# Altium footprint library amplifier.PcbLib: 49 footprints (part 2 of 4)
Each footprint in its own frame and in the unit in brackets; x right, y up, seen from the top. Pads: shape width x height; smd on the part's side, far side on the other; paste and mask are expansions set on the pad; w line width, h text height; cw(c..) or ccw(c..) is an arc to the next point about the centre after c.
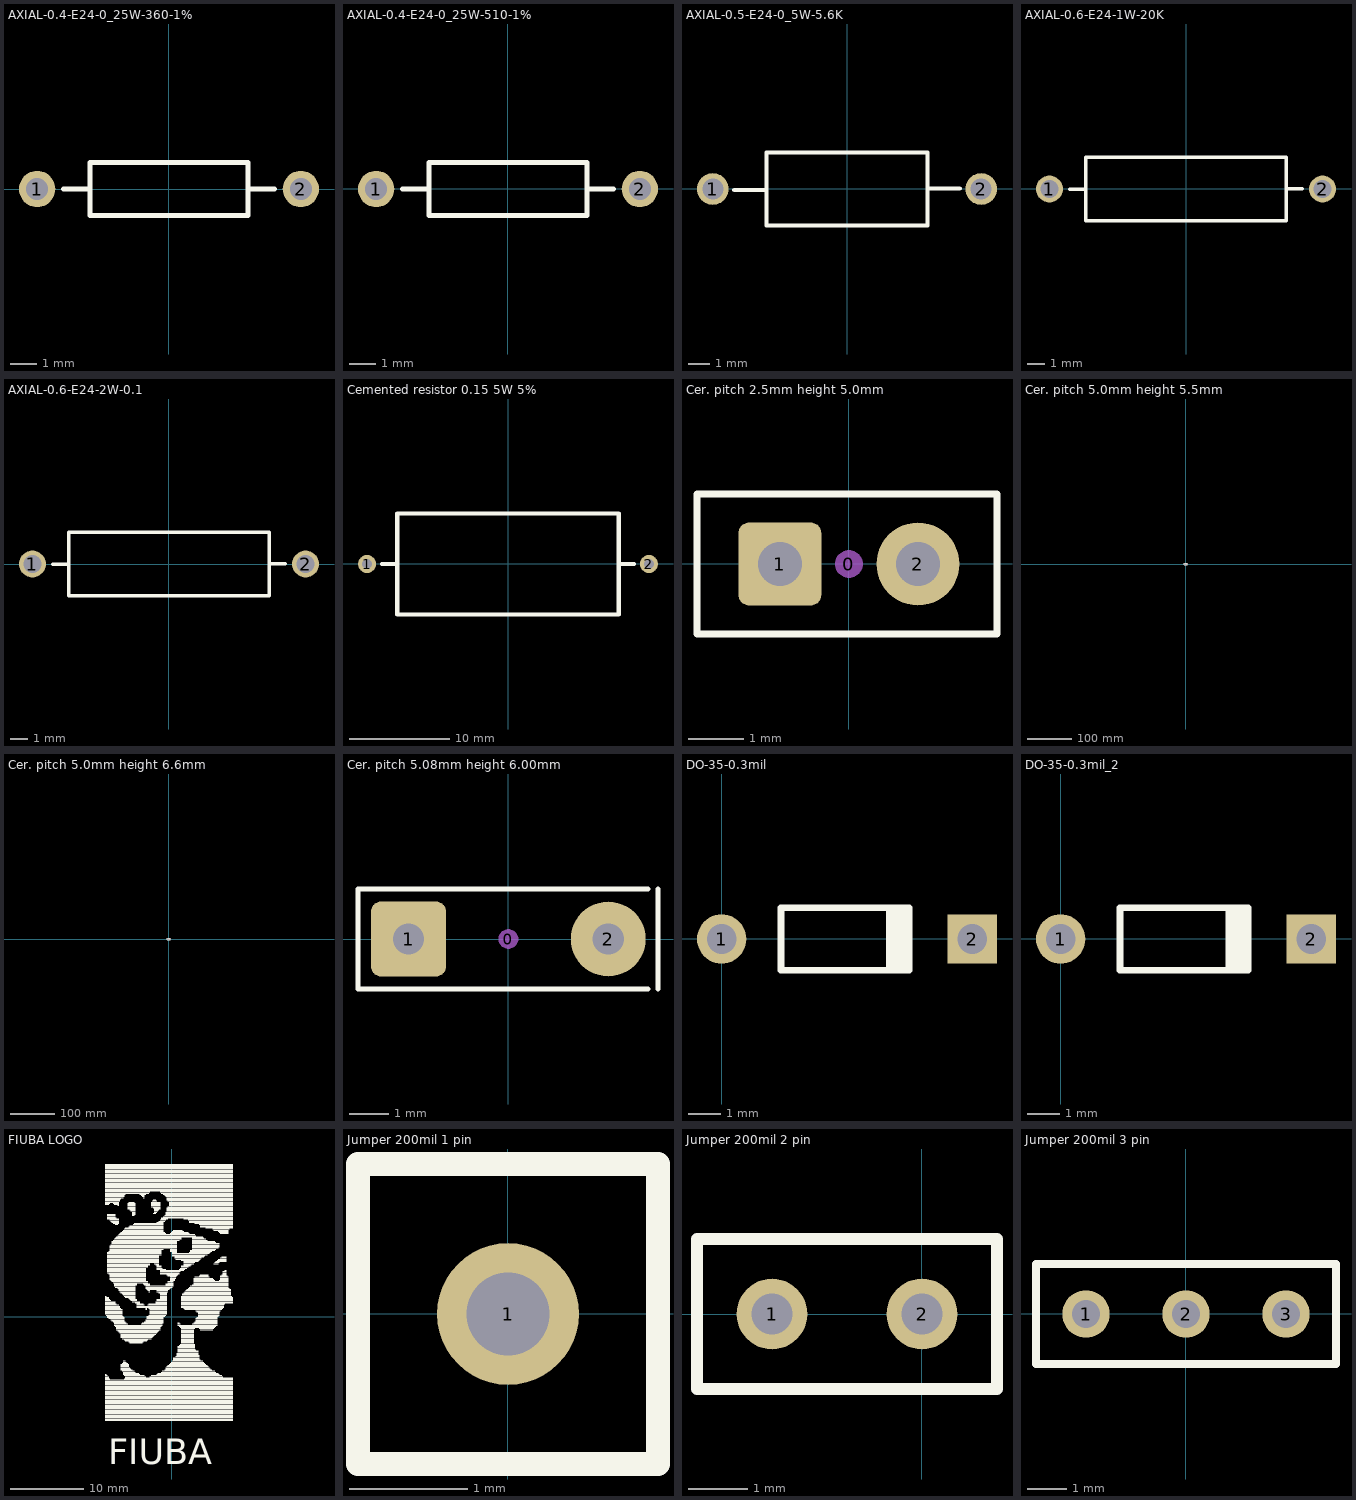
[diagram p1: the footprints below, top view; thin cyan lines are the x and y axes]

## AXIAL-0.4-E24-0_25W-360-1% [mm]
pads (2):
  round 1.4 hole 0.85: 1(-5.08,0) 2(5.08,0)
Top Overlay:
  lines w0.2: -4.064,0 -3.048,0 ; 3.048,0 4.064,0 ; -3.048,-1.016 -3.048,1.016 3.048,1.016 3.048,-1.016 -3.048,-1.016
3D body "User Library-Res40-Axial 0_25W-360R-1%.step": height 2.41, standoff -2, extent -5.38,-1.2 5.38,1.2

## AXIAL-0.4-E24-0_25W-510-1% [mm]
pads (2):
  round 1.4 hole 0.85: 1(-5.08,0) 2(5.08,0)
Top Overlay:
  lines w0.2: -4.064,0 -3.048,0 ; 3.048,0 4.064,0 ; -3.048,-1.016 -3.048,1.016 3.048,1.016 3.048,-1.016 -3.048,-1.016
3D body "User Library-Res40-Axial 0_25W-510R-1%.step": height 2.41, standoff -2, extent -5.38,-1.2 5.38,1.2

## AXIAL-0.5-E24-0_5W-5.6K [mm]
pads (2):
  round 1.5 hole 1: 1(-6.35,0) 2(6.35,0)
Top Overlay:
  lines w0.2: -5.334,-0.051 -4.953,-0.051 -4.191,-0.051 -3.81,-0.051 ; 3.81,0.025 5.334,0.025 ; -3.81,-1.727 3.81,-1.727 3.81,1.727 -3.81,1.727 -3.81,-1.727
3D body "Res50-Axial 0_5W-5_6K.step": height 4.3, standoff -5.08, extent -6.725,-1.875 6.725,1.875
3D body "Res50-Axial 0_5W-5_6K.step": height 4.3, standoff -5.08, extent -6.725,-1.875 6.725,1.875

## AXIAL-0.6-E24-1W-20K [mm]
pads (2):
  round 1.5 hole 1: 1(-7.62,0) 2(7.62,0)
Top Overlay:
  lines w0.2: -6.477,-0.025 -5.588,-0.025 ; 5.588,0.025 6.477,0.025 ; -5.588,-1.778 5.588,-1.778 5.588,1.778 -5.588,1.778 -5.588,-1.778
3D body "User Library-Res60-Axial 1W-20K-5%.step": height 5, standoff -3, extent -7.97,-2.5 7.97,2.5
3D body "User Library-Res60-Axial 1W-20K-5%.step": height 5.5, standoff -2.5, extent -7.97,-2.5 7.97,2.5

## AXIAL-0.6-E24-2W-0.1 [mm]
pads (2):
  round 1.5 hole 1: 1(-7.62,0) 2(7.62,0)
Top Overlay:
  lines w0.2: -6.477,-0.025 -5.588,-0.025 ; 5.588,0.025 6.477,0.025 ; -5.588,-1.778 -5.588,1.778 5.588,1.778 5.588,-1.778 -5.588,-1.778
3D body "User Library-Res40-Axial 2W-0R1-5%.step": height 4.5, standoff -3.5, extent -8.02,-2 8.02,2

## Cemented resistor 0.15 5W 5% [mm]
pads (2):
  round 1.8 / inner round 1.4 / far side round 1.8 hole 1: 1(-14,0) 2(14,0)
Top Overlay:
  lines w0.4: -12.5,0 -11,0 ; 11,0 12.5,0 ; -11,-5 11,-5 11,5 -11,5 -11,-5
3D body "Cement Fixed Resistors 5W 0R15 PCB Horizontal.step": height 11, standoff -1.6, extent -14.345,-5 14.345,5

## Cer. pitch 2.5mm height 5.0mm [mm]
pads (3):
  round 0.508 on Mech15: 0(0,0)
  rrect25% 1.5x1.5 hole 0.8: 1(-1.25,0)
  round 1.5 hole 0.8: 2(1.25,0)
Top Overlay:
  lines w0.127: 2.65,-1.27 -2.75,-1.27 -2.75,1.27 2.675,1.27 ; 2.681,-1.27 2.681,-0.635 2.681,0.635 2.681,1.27
3D body "FK18X5R1E474K.step": height 5.5, standoff -3.33, extent -2.775,-1.25 2.725,1.25

## Cer. pitch 5.0mm height 5.5mm [mm]
pads (3):
  round 0.508 on Mech15: 0(0,0)
  rrect25% 1.905x1.905 hole 0.8: 1(-2.5,0)
  round 1.905 hole 0.8: 2(2.5,0)
Top Overlay:
  lines w0.127: -3.5,-1.27 3.5,-1.27 3.5,1.27 -3.5,1.27 -3.5,-1.27
Mechanical 13:
  lines w0.127: -2.5,-0.3 cw(c-2.5,0) -2.5,0.3 ; -2.25,-0.523 -2.247,-0.511 -2.24,-0.497 -2.227,-0.48 -2.21,-0.461 -2.186,-0.439 -2.157,-0.415 -2.122,-0.387 -2.083,-0.357 -2.046,-0.327 -2.006,-0.292 -1.995,-0.281 -1.983,-0.268 -1.972,-0.254 -1.962,-0.238 -1.958,-0.229 -1.955,-0.218 -1.954,-0.211 -1.953,-0.203 ; -2.25,0.523 cw(c-3.279,-0.727) -1.953,0.203 ; -2.236,-0.718 cw(c-1.896,-0.22) -2.5,-0.217 -2.5,0.217 cw(c-1.896,0.221) -2.232,0.723 -2.23,0.724 -2.206,0.741 ; -2.232,-0.723 -2.225,-0.727 -2.205,-0.742 ; 2.205,0.742 2.225,0.727 2.232,0.723 ; 2.206,-0.741 2.23,-0.724 2.232,-0.723 ccw(c1.896,-0.221) 2.5,-0.217 2.5,0.217 ccw(c1.896,0.22) 2.236,0.718 ; 2.25,-0.523 2.243,-0.502 2.225,-0.477 2.187,-0.44 2.134,-0.397 2.073,-0.349 2.007,-0.293 1.986,-0.271 1.967,-0.246 1.956,-0.223 1.953,-0.203 ; 2.25,0.523 2.24,0.497 2.21,0.461 2.157,0.415 2.083,0.357 2.046,0.327 2.006,0.292 1.983,0.268 1.962,0.238 1.955,0.218 1.953,0.203 ; 2.5,-0.3 ccw(c2.5,0) 2.5,0.3 ; -1.953,-0.203 -1.953,0.203 ; -1.953,-0.203 1.953,-0.203 ; -1.953,0.203 1.953,0.203 ; -1.8,-1.003 cw(c-1.8,-0.553) -2.25,-0.553 -2.25,0.553 cw(c-1.8,0.553) -1.8,1.003 ; -1.8,-1.003 cw(c-1.777,-0.913) -1.867,-0.935 cw(c9.111,-1.292) -1.819,-0.203 -1.819,0.203 ccw(c-168.083,-10.401) -1.867,0.935 cw(c-1.777,0.912) -1.8,1.003 ; -1.8,-1.003 1.8,-1.003 ; -1.8,1.003 1.8,1.003 ; 1.8,-1.003 ccw(c1.8,-0.553) 2.25,-0.553 2.25,0.553 ccw(c1.8,0.553) 1.8,1.003 ; 1.8,-1.003 ccw(c1.777,-0.912) 1.867,-0.935 cw(c168.269,10.414) 1.819,-0.203 1.819,0.203 ccw(c-9.111,1.292) 1.867,0.935 ccw(c1.777,0.913) 1.8,1.003 ; 1.953,-0.203 1.953,0.203
3D body "TDK FK24 ceramic capacitor.STEP": height 5.47, standoff -2.54, extent -2.797,-1.003 2.798,1.003

## Cer. pitch 5.0mm height 6.6mm [mm]
pads (3):
  round 0.508 on Mech15: 0(0,0)
  rrect25% 1.905x1.905 hole 0.8: 1(-2.5,0)
  round 1.905 hole 0.8: 2(2.5,0)
Top Overlay:
  lines w0.127: -3.5,-1.27 3.475,-1.27 3.475,1.27 -3.5,1.27 -3.5,-1.27
Mechanical 13:
  lines w0.127: -2.5,-0.3 cw(c-2.5,0) -2.5,0.3 ; -2.5,-0.217 ccw(c-1.896,-0.22) -2.236,-0.718 ; -2.5,-0.217 -2.5,0.217 cw(c-1.896,0.221) -2.232,0.723 -2.23,0.724 -2.206,0.741 ; -2.25,-0.523 -2.248,-0.511 -2.24,-0.497 -2.227,-0.48 -2.21,-0.461 -2.186,-0.439 -2.157,-0.415 -2.122,-0.387 -2.083,-0.357 -2.046,-0.327 -2.006,-0.292 -1.995,-0.281 -1.983,-0.268 -1.972,-0.254 -1.962,-0.238 -1.958,-0.229 -1.955,-0.218 -1.954,-0.211 -1.953,-0.203 ; -2.25,0.523 cw(c-3.279,-0.727) -1.953,0.203 ; -2.232,-0.723 -2.225,-0.727 -2.205,-0.742 ; 2.205,0.742 2.225,0.727 2.232,0.723 ; 2.206,-0.741 2.23,-0.724 2.232,-0.723 ccw(c1.896,-0.221) 2.5,-0.217 2.5,0.217 ccw(c1.896,0.22) 2.236,0.718 ; 2.25,-0.523 2.243,-0.502 2.225,-0.477 2.187,-0.44 2.134,-0.397 2.073,-0.349 2.007,-0.293 1.986,-0.271 1.967,-0.246 1.956,-0.223 1.953,-0.203 ; 2.25,0.523 2.24,0.497 2.21,0.461 2.157,0.415 2.083,0.357 2.046,0.327 2.006,0.292 1.983,0.268 1.962,0.238 1.955,0.218 1.953,0.203 ; 2.5,-0.3 ccw(c2.5,0) 2.5,0.3 ; -1.953,-0.203 -1.953,0.203 ; -1.953,-0.203 1.953,-0.203 ; -1.953,0.203 1.953,0.203 ; -1.8,-1.003 cw(c-1.8,-0.553) -2.25,-0.553 -2.25,0.553 cw(c-1.8,0.553) -1.8,1.003 ; -1.8,-1.003 cw(c-1.777,-0.913) -1.867,-0.935 cw(c9.111,-1.292) -1.819,-0.203 -1.819,0.203 ccw(c-168.083,-10.401) -1.867,0.935 cw(c-1.777,0.912) -1.8,1.003 ; -1.8,-1.003 1.8,-1.003 ; -1.8,1.003 1.8,1.003 ; 1.8,-1.003 ccw(c1.8,-0.553) 2.25,-0.553 2.25,0.553 ccw(c1.8,0.553) 1.8,1.003 ; 1.8,-1.003 ccw(c1.777,-0.912) 1.867,-0.935 cw(c168.269,10.414) 1.819,-0.203 1.819,0.203 ccw(c-9.111,1.292) 1.867,0.935 ccw(c1.777,0.913) 1.8,1.003 ; 1.953,-0.203 1.953,0.203
3D body "CAPML200 (2_5x6_6)-2.step": height 9.14, standoff -3.77, extent -3.537,-1.3 3.537,1.3

## Cer. pitch 5.08mm height 6.00mm [mil]
pads (3):
  round 20 on Mech15: 0(0,0)
  rrect25% 75x75 hole 31.5: 1(-100,0)
  round 75 hole 31.5: 2(100,0)
Top Overlay:
  lines w5: 140,-50 -150.59,-50 -150.59,50 140,50 ; 149.84,-50 149.84,-25 149.84,25 149.84,50
3D body "Ceramic Disc Capacitor 0_2in pitch.step": height 295.28, standoff -39.37, extent -138.78,-35.36 136.79,31.43

## DO-35-0.3mil [mm]
pads (2):
  round 1.5 hole 0.9: 1(0,0)
  rect 1.5x1.5 hole 0.9: 2(7.62,0)
Top Overlay:
  rectangle: 5.003,-0.95 5.803,0.95
  lines w0.2: 5.703,-0.95 1.803,-0.95 1.803,0.95 5.703,0.95
3D body "DO-35-30.step": height 2.21, standoff -1.8, extent -0.26,-1.016 7.88,1.004

## DO-35-0.3mil_2 [mm]
pads (2):
  round 1.5 hole 0.9: 1(0,0)
  rect 1.5x1.5 hole 0.9: 2(7.62,0)
Top Overlay:
  rectangle: 5.003,-0.95 5.803,0.95
  lines w0.2: 5.703,-0.95 1.803,-0.95 1.803,0.95 5.703,0.95
3D body "DO-35-30.step": height 2.21, standoff -1.8, extent -0.26,-1.016 7.88,1.004

## FIUBA LOGO [mm]
Top Overlay:
  drawing of 509 lines, arcs and shapes, not listed
  text "FIUBA" at -8.636,-20.066 h3.5

## Jumper 200mil 1 pin [mm]
pads (1):
  round 1.2 hole 0.7: 1(0,0)
Top Overlay:
  lines w0.2: -1.27,-1.27 -1.27,1.27 1.27,1.27 1.27,-1.27 -1.27,-1.27
3D body "User Library-EP-Con-0100-Header-1Row1.step": height 10.2, standoff -3.39, extent -1.219,-1.27 1.219,1.27

## Jumper 200mil 2 pin [mm]
pads (2):
  round 1.2 hole 0.7: 1(-2.54,0) 2(0,0)
Top Overlay:
  lines w0.2: -3.81,-1.27 -3.81,1.27 1.27,1.27 1.27,-1.27 -3.81,-1.27
3D body "User Library-EP-Con-0100-Header-1Row2.step": height 10.2, standoff -3.39, extent -3.81,-1.168 1.27,1.27

## Jumper 200mil 3 pin [mm]
pads (3):
  round 1.2 hole 0.7: 1(-2.54,0) 2(0,0) 3(2.54,0)
Top Overlay:
  lines w0.2: -3.81,-1.27 -3.81,1.27 3.81,1.27 3.81,-1.27 -3.81,-1.27
3D body "User Library-EP-Con-0100-Header-1Row3.step": height 9.97, standoff -3.62, extent -3.81,-1.219 3.81,1.219